# EAGLE library part HD-A544D (library moje)
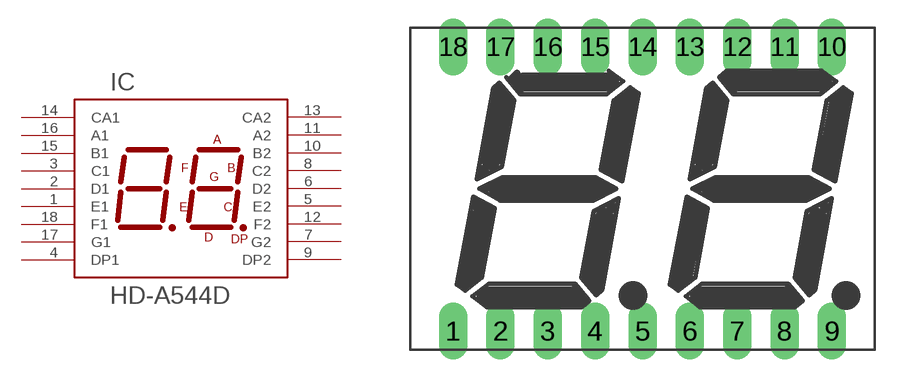
[diagram p1: symbol with the pads of DIL18-SE; footprint DIL18-SE]

Designator prefix IC

## HD-A544D  [DIL18-SE]
1  E1
2  D1
3  C1
4  DP1
5  E2
6  D2
7  G2
8  C2
9  DP2
10  B2
11  A2
12  F2
13  CA2
14  CA1
15  B1
16  A1
17  G1
18  F1

## Footprint DIL18-SE (pad centres in mm)
drill 0.813 pad 1.524 long: 1 -10.16,-7.62; 2 -7.62,-7.62; 3 -5.08,-7.62; 4 -2.54,-7.62; 5 0,-7.62; 6 2.54,-7.62; 7 5.08,-7.62; 8 7.62,-7.62; 9 10.16,-7.62; 10 10.16,7.62; 11 7.62,7.62; 12 5.08,7.62; 13 2.54,7.62; 14 0,7.62; 15 -2.54,7.62; 16 -5.08,7.62; 17 -7.62,7.62; 18 -10.16,7.62